# Altium schematic symbol library ICs.SchLib: 3 symbols
Pins are listed as number, name and electrical type; pins without a type are passive.

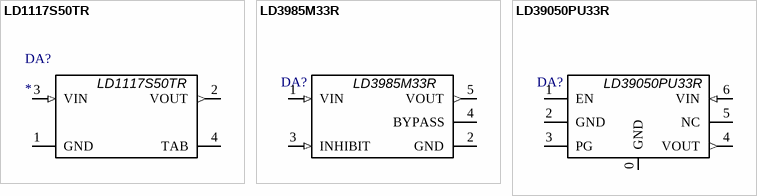
[diagram p0: symbols LD1117S50TR to LD39050PU33R]

## LD1117S50TR
designator DA?
Manufacturer: STMicroelectronics; Desc: табилизатор напряжения; VCC: 15 В; Vout: 5 В; Ta: 150 °C; Package: SOT-223; ComponentLink1Description: Datasheet; ComponentLink1URL: https://static.chipdip.ru/lib/432/DOC004432359.pdf; ComponentLink2Description: Source; ComponentLink2URL: https://www.chipdip.ru/product/ld1117s50tr-stabilizator-napryazheniya-st-microelectronics-9000143564
footprint LD1117S50TR (SOT-223)
pins: 1 GND, 2 VOUT (out), 3 VIN (in), 4 TAB

## LD3985M33R
designator DA?
Manufacturer: STMicroelectronics; Desc: Стабилизатор напряжения линейный; VCC: 6 В; Vout: 3.3 В; Ta: 125 °C; ComponentLink1Description: Source; ComponentLink1URL: https://www.chipdip.ru/product/ld3985m33r-regulyator-s-nizkim-padeniem-st-microelectronics-9060001543; ComponentLink2Description: Datasheet; ComponentLink2URL: *; Package: SOT-23-5
footprint LD3985M33R (SOT-23-5)
pins: 1 VIN (in), 2 GND, 3 INHIBIT (in), 4 BYPASS, 5 VOUT (out)

## LD39050PU33R
designator DA?
Manufacturer: STMicroelectronics; Desc: Стабилизатор напряжения линейный; VCC: 5.5 В; Vout: 3.3 В; Ta: 125 °C; ComponentLink1Description: Source; ComponentLink1URL: https://www.chipdip.ru/product/ld39050pu33r-regulyator-napryazheniya-st-microelectronics-9000811056; ComponentLink2Description: Datasheet; ComponentLink2URL: https://static.chipdip.ru/lib/843/DOC012843751.pdf; Package: DFN6 (3x3 mm)
footprint LD39050PU33R (DFN6 (3x3 mm))
pins: 0 GND, 1 EN, 2 GND, 3 PG, 4 VOUT (out), 5 NC, 6 VIN (in)